# Altium schematic symbol library FT230X.SchLib: 1 symbol
Pins are listed as number, name and electrical type; pins without a type are passive.

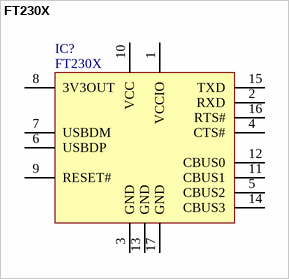
[diagram p0: symbol FT230X]

## FT230X
designator IC?
Manufacturer: FTDI; Catalog: Farnell; Catalog Number: 2081324; Value: FT230X
footprint FT230XQ (QFN, 16-Leads, Body 4,0x4,0mm (max), Pitch 0,65mm, IPC Medium Density)
pins: 1 VCCIO, 2 RXD, 3 GND, 4 CTS#, 5 CBUS2, 6 USBDP, 7 USBDM, 8 3V3OUT, 9 RESET#, 10 VCC, 11 CBUS1, 12 CBUS0, 13 GND, 14 CBUS3, 15 TXD, 16 RTS#, 17 GND